# Altium footprint library SON50P200X200X80-9N.PcbLib: 1 footprints
Each footprint in its own frame and in the unit in brackets; x right, y up, seen from the top. Pads: shape width x height; smd on the part's side, far side on the other; paste and mask are expansions set on the pad; w line width, h text height; cw(c..) or ccw(c..) is an arc to the next point about the centre after c.
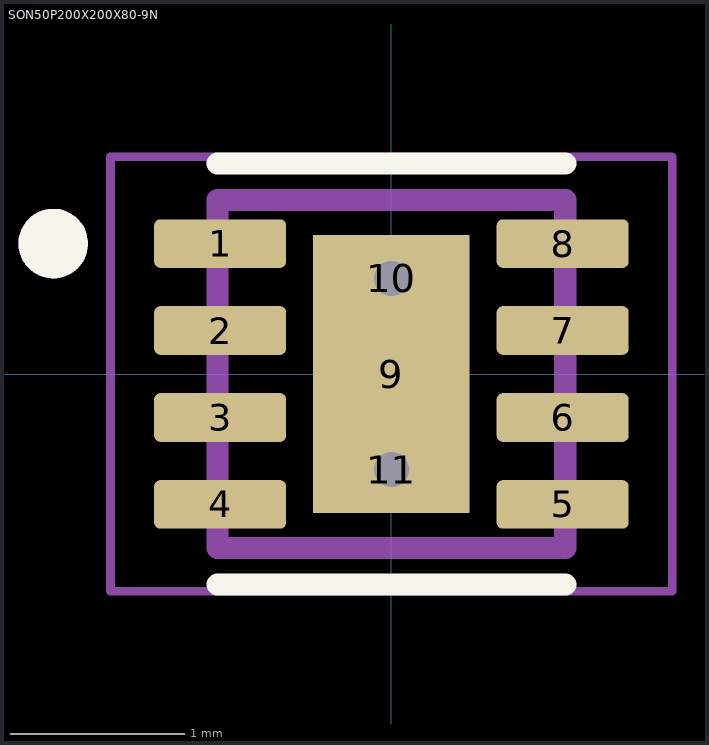
[diagram p0: the footprint, top view; thin cyan lines are the x and y axes]

## SON50P200X200X80-9N [mm]
pads (11):
  rrect25% 0.76x0.28 smd: 1(-0.985,0.75) 2(-0.985,0.25) 3(-0.985,-0.25) 4(-0.985,-0.75) 5(0.985,-0.75) 6(0.985,-0.25) 7(0.985,0.25) 8(0.985,0.75)
  rect 0.9x1.6 smd paste-2: 9(0,0)
  round 0.4 hole 0.2 mask+0: 10(0,0.55) 11(0,-0.55)
Top Overlay:
  circle w0.2: c-1.945,0.75 r0.1
  lines w0.127: -1,-1.21 1,-1.21 ; -1,1.21 1,1.21
Top Paste:
  region: 0.45,-0.8 -0.45,-0.8 -0.45,-0.1 0.45,-0.1
  region: 0.45,0.1 -0.45,0.1 -0.45,0.8 0.45,0.8
Mechanical 13:
  circle w0.2: c-1.945,0.75 r0.1
  lines w0.127: -1,-1 1,-1 1,1 -1,1 -1,-1
Mechanical 15:
  lines w0.05: -1.615,-1.25 1.615,-1.25 1.615,1.25 -1.615,1.25 -1.615,-1.25
3D body "step_temp.STEP": height 0.8, standoff 0, extent -1,-1 1,1